# EAGLE library part MAX8814 (library BaseApp)
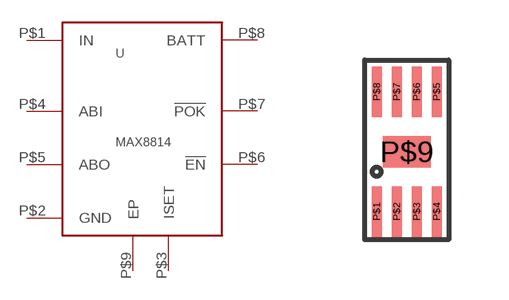
[diagram p120: symbol with the pads of 8TDFN; footprint 8TDFN]

Designator prefix -

## MAX8814  [8TDFN]
P$1  IN
P$2  GND
P$3  ISET
P$4  ABI
P$5  ABO
P$6  !EN
P$7  !POK
P$8  BATT
P$9  EP

## Footprint 8TDFN (pad centres in mm)
smd 0.25 x 1.27: P$1 0,0; P$2 0.5,0; P$3 1,0; P$4 1.5,0; P$5 1.5,3; P$6 1,3; P$7 0.5,3; P$8 0,3
smd 1.2 x 0.8: P$9 0.75,1.5